# Altium schematic symbol library Connectors.SchLib: 183 symbols
Pins are listed as number, name and electrical type; pins without a type are passive.

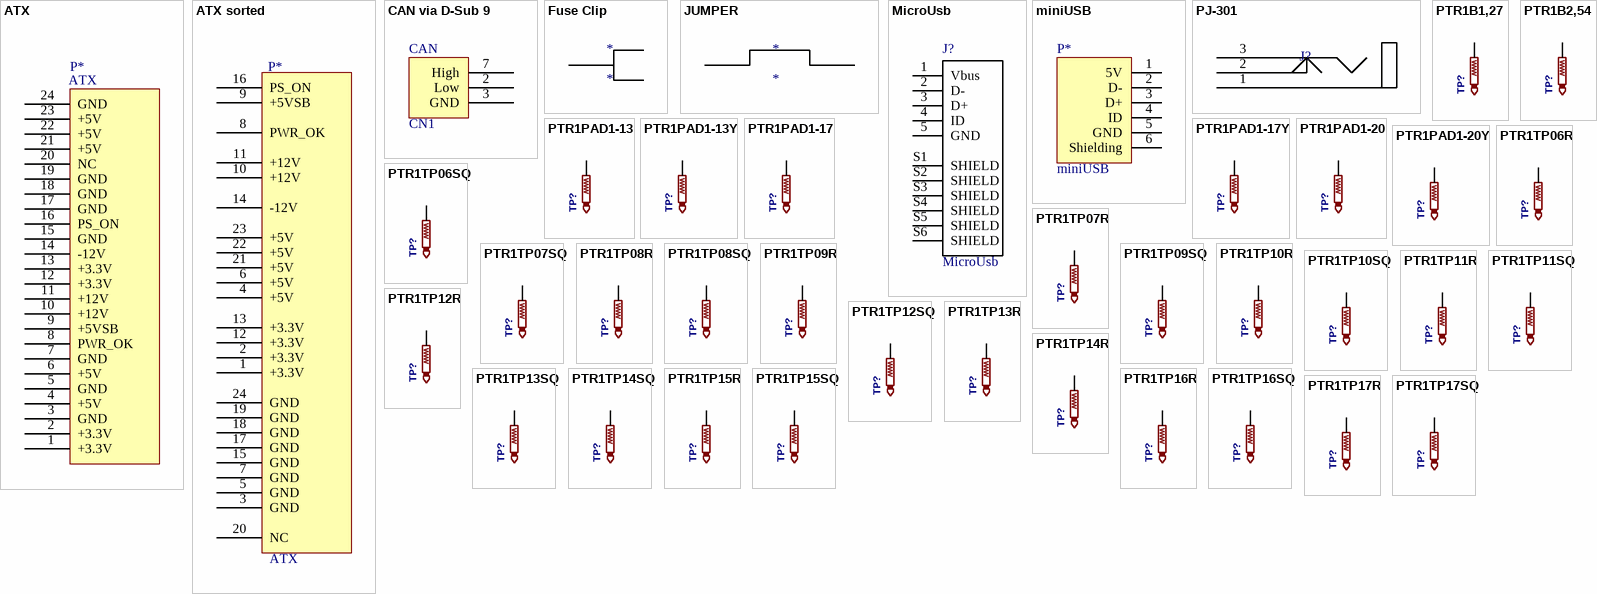
[diagram p0: symbols ATX to PTR1TP17SQ]

## ATX
designator P*
pins: 1 +3.3V, 2 +3.3V, 3 GND, 4 +5V, 5 GND, 6 +5V, 7 GND, 8 PWR_OK, 9 +5VSB, 10 +12V, 11 +12V, 12 +3.3V, 13 +3.3V, 14 -12V, 15 GND, 16 PS_ON, 17 GND, 18 GND, 19 GND, 20 NC, 21 +5V, 22 +5V, 23 +5V, 24 GND

## ATX sorted
designator P*, comment ATX
pins: 1 +3.3V, 2 +3.3V, 3 GND, 4 +5V, 5 GND, 6 +5V, 7 GND, 8 PWR_OK, 9 +5VSB, 10 +12V, 11 +12V, 12 +3.3V, 13 +3.3V, 14 -12V, 15 GND, 16 PS_ON, 17 GND, 18 GND, 19 GND, 20 NC, 21 +5V, 22 +5V, 23 +5V, 24 GND

## CAN via D-Sub 9
designator CN1, comment CAN
footprint D-SUB 9
pins: 2 Low, 3 GND, 7 High

## Fuse Clip
designator *
footprint FUSE_BK-6003
pins: 1 PIN

## JUMPER
designator *
footprint Jumper
pins: 1, 2

## MicroUsb
designator J?
10103594-0001LF / Conn Micro USB Type B RCP 5 POS 0.65mm Solder RA SMD 5 Terminal 1 Port T/R; MF: Amphenol ICC; Price: None; MP: 10103594-0001LF; Availability: Unavailable; SnapEDA_Link: https://www.snapeda.com/parts/10103594-0001LF/Amphenol%20ICC/view-part/?ref=snap; Package: None; Value: *
footprint FCI_10103594-0001LF_10103594-0001LF(Primary)
pins: 1 Vbus, 2 D-, 3 D+, 4 ID, 5 GND, S1 SHIELD, S2 SHIELD, S3 SHIELD, S4 SHIELD, S5 SHIELD, S6 SHIELD

## miniUSB
designator miniUSB, comment P*
footprint miniUSB
pins: 1 5V, 2 D-, 3 D+, 4 ID, 5 GND, 6 Shielding

## PJ-301
designator J?  (value not drawn)
https://www.snapeda.com/parts/PJ-301BM/Tayda%20Electronics/datasheet/ / https://pt.aliexpress.com/item/32841677168.html?spm=a2g03.12057483.0.0.6dda4aeaXiyjRe / https://lh3.googleusercontent.com/proxy/ZbPfZslDxdj8iWSgzh0kYZVEID9Zfc6SS9ZRHYvUB6heg4eTAyEEOQEiXlT2FamGh3ujXXQ57fTjbGyEKtdVl3hemL66LOj7ZA
footprint PJ-301
pins: 1 Sleeve, 2 Tip, 3 Ring

## PTR1B1,27
designator TP?, comment TEST PIN  (value not drawn)
footprint B1,27
pins: PP TP

## PTR1B2,54
designator TP?, comment TEST PIN  (value not drawn)
footprint B2,54
pins: PP TP

## PTR1PAD1-13
designator TP?, comment TEST PIN  (value not drawn)
footprint P1-13
pins: 1 TP

## PTR1PAD1-13Y
designator TP?, comment TEST PIN  (value not drawn)
footprint P1-13Y
pins: 1 TP

## PTR1PAD1-17
designator TP?, comment TEST PIN  (value not drawn)
footprint P1-17
pins: 1 TP

## PTR1PAD1-17Y
designator TP?, comment TEST PIN  (value not drawn)
footprint P1-17Y
pins: 1 TP

## PTR1PAD1-20
designator TP?, comment TEST PIN  (value not drawn)
footprint P1-20
pins: 1 TP

## PTR1PAD1-20Y
designator TP?, comment TEST PIN  (value not drawn)
footprint P1-20Y
pins: 1 TP

## PTR1TP06R
designator TP?, comment TEST PIN  (value not drawn)
footprint TP06R
pins: TP

## PTR1TP06SQ
designator TP?, comment TEST PIN  (value not drawn)
footprint TP06SQ
pins: TP

## PTR1TP07R
designator TP?, comment TEST PIN  (value not drawn)
footprint TP07R
pins: TP

## PTR1TP07SQ
designator TP?, comment TEST PIN  (value not drawn)
footprint TP07SQ
pins: TP

## PTR1TP08R
designator TP?, comment TEST PIN  (value not drawn)
footprint TP08R
pins: TP

## PTR1TP08SQ
designator TP?, comment TEST PIN  (value not drawn)
footprint TP08SQ
pins: TP

## PTR1TP09R
designator TP?, comment TEST PIN  (value not drawn)
footprint TP09R
pins: TP

## PTR1TP09SQ
designator TP?, comment TEST PIN  (value not drawn)
footprint TP09SQ
pins: TP

## PTR1TP10R
designator TP?, comment TEST PIN  (value not drawn)
footprint TP10R
pins: TP

## PTR1TP10SQ
designator TP?, comment TEST PIN  (value not drawn)
footprint TP10SQ
pins: TP

## PTR1TP11R
designator TP?, comment TEST PIN  (value not drawn)
footprint TP11R
pins: TP

## PTR1TP11SQ
designator TP?, comment TEST PIN  (value not drawn)
footprint TP11SQ
pins: TP

## PTR1TP12R
designator TP?, comment TEST PIN  (value not drawn)
footprint TP12R
pins: TP

## PTR1TP12SQ
designator TP?, comment TEST PIN  (value not drawn)
footprint TP12SQ
pins: TP

## PTR1TP13R
designator TP?, comment TEST PIN  (value not drawn)
footprint TP13R
pins: TP

## PTR1TP13SQ
designator TP?, comment TEST PIN  (value not drawn)
footprint TP13SQ
pins: TP

## PTR1TP14R
designator TP?, comment TEST PIN  (value not drawn)
footprint TP14R
pins: TP

## PTR1TP14SQ
designator TP?, comment TEST PIN  (value not drawn)
footprint TP14SQ
pins: TP

## PTR1TP15R
designator TP?, comment TEST PIN  (value not drawn)
footprint TP15R
pins: TP

## PTR1TP15SQ
designator TP?, comment TEST PIN  (value not drawn)
footprint TP15SQ
pins: TP

## PTR1TP16R
designator TP?, comment TEST PIN  (value not drawn)
footprint TP16R
pins: TP

## PTR1TP16SQ
designator TP?, comment TEST PIN  (value not drawn)
footprint TP16SQ
pins: TP

## PTR1TP17R
designator TP?, comment TEST PIN  (value not drawn)
footprint TP17R
pins: TP

## PTR1TP17SQ
designator TP?, comment TEST PIN  (value not drawn)
footprint TP17SQ
pins: TP

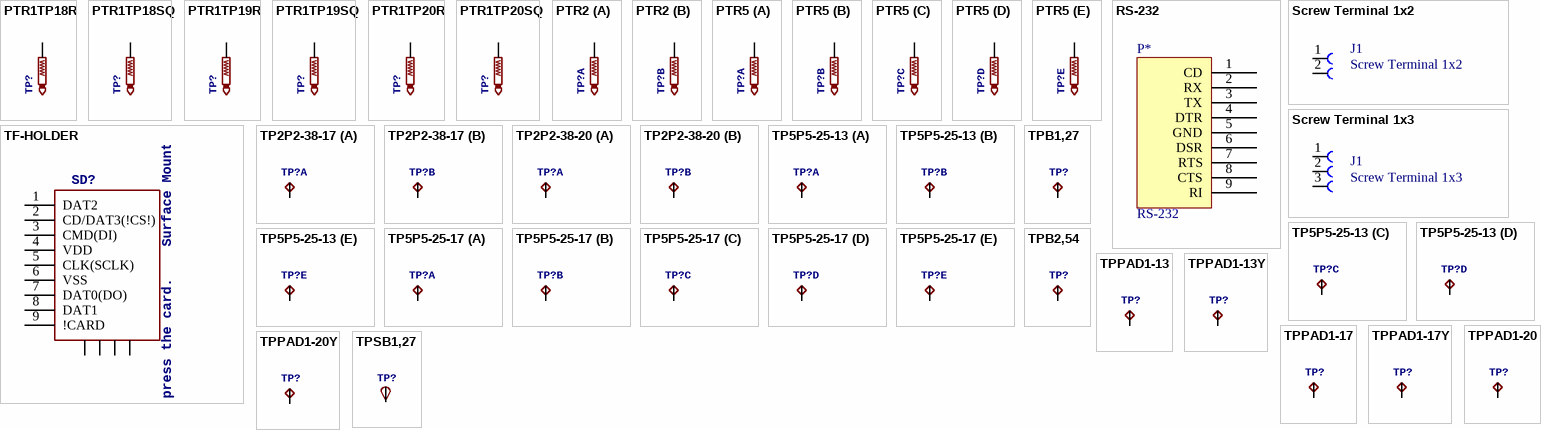
[diagram p1: symbols PTR1TP18R to TPSB1,27]

## PTR1TP18R
designator TP?, comment TEST PIN  (value not drawn)
footprint TP18R
pins: TP

## PTR1TP18SQ
designator TP?, comment TEST PIN  (value not drawn)
footprint TP18SQ
pins: TP

## PTR1TP19R
designator TP?, comment TEST PIN  (value not drawn)
footprint TP19R
pins: TP

## PTR1TP19SQ
designator TP?, comment TEST PIN  (value not drawn)
footprint TP19SQ
pins: TP

## PTR1TP20R
designator TP?, comment TEST PIN  (value not drawn)
footprint TP20R
pins: TP

## PTR1TP20SQ
designator TP?, comment TEST PIN  (value not drawn)
footprint TP20SQ
pins: TP

## PTR2
designator TP?, comment TEST PIN  (value not drawn)
footprint P2-38-17
part A pins: 1 TP
part B pins: 2 TP

## PTR5
designator TP?, comment TEST PIN  (value not drawn)
footprint P5-25-17
part A pins: 1 TP
part B pins: 2 TP
part C pins: 3 TP
part D pins: 4 TP
part E pins: 5 TP

## RS-232
designator P*
pins: 1 CD, 2 RX, 3 TX, 4 DTR, 5 GND, 6 DSR, 7 RTS, 8 CTS, 9 RI

## Screw Terminal 1x2
designator J1
102 Series 5mm Pitch Straight, PCB Terminal Block, Through Hole, 2 Way; MF: Wurth Electronics; MP: 691102710002; SnapEDA_Link: https://www.snapeda.com/parts/691102710002/Wurth%20Electronics%20Inc/view-part/?ref=snap; Price: 0.68 USD; Package: None; Availability: Warning; Value: *
footprint 691102710002
pins: 1, 2

## Screw Terminal 1x3
designator J1
T/BLOCK, 5MM, PCB, 3WAY; Connector Type: Terminal Block, PCB; Series: 212; Connector Mounting: PCB; Pitch Spacing: 5m...; MF: Wurth; MP: 691212710003; SnapEDA_Link: https://www.snapeda.com/parts/691212710003/Wurth%20Electronics%20Inc/view-part/?ref=snap; Price: None; Package: None; Availability: Unavailable; Value: *
footprint 691212710003
pins: 1, 2, 3

## TF-HOLDER
designator SD?, comment TF / Micro SD socket is PUSH-PUSH type, the card can be pushed into and auto locked and pushed out by simply press the card.    Surface Mounting type.
footprint TF-PULL
pins: 1 DAT2, 2 CD/DAT3(!CS!), 3 CMD(DI), 4 VDD (power), 5 CLK(SCLK), 6 VSS (power), 7 DAT0(DO), 8 DAT1, 9 !CARD, S1, S2, S3, S4

## TP2P2-38-17
designator TP?, comment Test pad  (value not drawn)
footprint P2-38-17
part A pins: 1 TP
part B pins: 2 TP

## TP2P2-38-20
designator TP?, comment Test pad  (value not drawn)
footprint P2-38-20
part A pins: 1 TP
part B pins: 2 TP

## TP5P5-25-13
designator TP?, comment Test pad  (value not drawn)
footprint P5-25-13
part A pins: 1 TP
part B pins: 2 TP
part C pins: 3 TP
part D pins: 4 TP
part E pins: 5 TP

## TP5P5-25-17
designator TP?, comment Test pad  (value not drawn)
footprint P5-25-17
part A pins: 1 TP
part B pins: 2 TP
part C pins: 3 TP
part D pins: 4 TP
part E pins: 5 TP

## TPB1,27
designator TP?, comment Test pad  (value not drawn)
footprint B1,27
pins: PP TP

## TPB2,54
designator TP?, comment Test pad  (value not drawn)
footprint B2,54
pins: PP TP

## TPPAD1-13
designator TP?, comment Test pad  (value not drawn)
footprint P1-13
pins: 1 TP

## TPPAD1-13Y
designator TP?, comment Test pad  (value not drawn)
footprint P1-13Y
pins: 1 TP

## TPPAD1-17
designator TP?, comment Test pad  (value not drawn)
footprint P1-17
pins: 1 TP

## TPPAD1-17Y
designator TP?, comment Test pad  (value not drawn)
footprint P1-17Y
pins: 1 TP

## TPPAD1-20
designator TP?, comment Test pad  (value not drawn)
footprint P1-20
pins: 1 TP

## TPPAD1-20Y
designator TP?, comment Test pad  (value not drawn)
footprint P1-20Y
pins: 1 TP

## TPSB1,27
designator TP?, comment TEST PIN  (value not drawn)
footprint B1,27
pins: PP

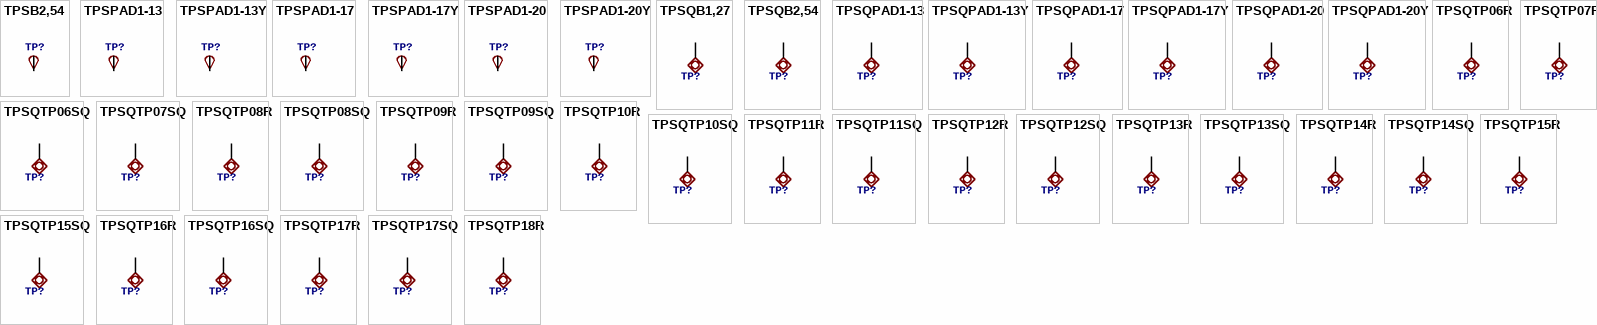
[diagram p2: symbols TPSB2,54 to TPSQTP18R]

## TPSB2,54
designator TP?, comment TEST PIN  (value not drawn)
footprint B2,54
pins: PP

## TPSPAD1-13
designator TP?, comment TEST PIN  (value not drawn)
footprint P1-13
pins: 1 PP

## TPSPAD1-13Y
designator TP?, comment TEST PIN  (value not drawn)
footprint P1-13Y
pins: 1 PP

## TPSPAD1-17
designator TP?, comment TEST PIN  (value not drawn)
footprint P1-17
pins: 1 PP

## TPSPAD1-17Y
designator TP?, comment TEST PIN  (value not drawn)
footprint P1-17Y
pins: 1 PP

## TPSPAD1-20
designator TP?, comment TEST PIN  (value not drawn)
footprint P1-20
pins: 1 PP

## TPSPAD1-20Y
designator TP?, comment TEST PIN  (value not drawn)
footprint P1-20Y
pins: 1 PP

## TPSQB1,27
designator TP?, comment Test pad  (value not drawn)
footprint B1,27
pins: PP TP

## TPSQB2,54
designator TP?, comment Test pad  (value not drawn)
footprint B2,54
pins: PP TP

## TPSQPAD1-13
designator TP?, comment Test pad  (value not drawn)
footprint P1-13
pins: 1 TP

## TPSQPAD1-13Y
designator TP?, comment Test pad  (value not drawn)
footprint P1-13Y
pins: 1 TP

## TPSQPAD1-17
designator TP?, comment Test pad  (value not drawn)
footprint P1-17
pins: 1 TP

## TPSQPAD1-17Y
designator TP?, comment Test pad  (value not drawn)
footprint P1-17Y
pins: 1 TP

## TPSQPAD1-20
designator TP?, comment Test pad  (value not drawn)
footprint P1-20
pins: 1 TP

## TPSQPAD1-20Y
designator TP?, comment Test pad  (value not drawn)
footprint P1-20Y
pins: 1 TP

## TPSQTP06R
designator TP?, comment Test pad  (value not drawn)
footprint TP06R
pins: TP

## TPSQTP06SQ
designator TP?, comment Test pad  (value not drawn)
footprint TP06SQ
pins: TP

## TPSQTP07R
designator TP?, comment Test pad  (value not drawn)
footprint TP07R
pins: TP

## TPSQTP07SQ
designator TP?, comment Test pad  (value not drawn)
footprint TP07SQ
pins: TP

## TPSQTP08R
designator TP?, comment Test pad  (value not drawn)
footprint TP08R
pins: TP

## TPSQTP08SQ
designator TP?, comment Test pad  (value not drawn)
footprint TP08SQ
pins: TP

## TPSQTP09R
designator TP?, comment Test pad  (value not drawn)
footprint TP09R
pins: TP

## TPSQTP09SQ
designator TP?, comment Test pad  (value not drawn)
footprint TP09SQ
pins: TP

## TPSQTP10R
designator TP?, comment Test pad  (value not drawn)
footprint TP10R
pins: TP

## TPSQTP10SQ
designator TP?, comment Test pad  (value not drawn)
footprint TP10SQ
pins: TP

## TPSQTP11R
designator TP?, comment Test pad  (value not drawn)
footprint TP11R
pins: TP

## TPSQTP11SQ
designator TP?, comment Test pad  (value not drawn)
footprint TP11SQ
pins: TP

## TPSQTP12R
designator TP?, comment Test pad  (value not drawn)
footprint TP12R
pins: TP

## TPSQTP12SQ
designator TP?, comment Test pad  (value not drawn)
footprint TP12SQ
pins: TP

## TPSQTP13R
designator TP?, comment Test pad  (value not drawn)
footprint TP13R
pins: TP

## TPSQTP13SQ
designator TP?, comment Test pad  (value not drawn)
footprint TP13SQ
pins: TP

## TPSQTP14R
designator TP?, comment Test pad  (value not drawn)
footprint TP14R
pins: TP

## TPSQTP14SQ
designator TP?, comment Test pad  (value not drawn)
footprint TP14SQ
pins: TP

## TPSQTP15R
designator TP?, comment Test pad  (value not drawn)
footprint TP15R
pins: TP

## TPSQTP15SQ
designator TP?, comment Test pad  (value not drawn)
footprint TP15SQ
pins: TP

## TPSQTP16R
designator TP?, comment Test pad  (value not drawn)
footprint TP16R
pins: TP

## TPSQTP16SQ
designator TP?, comment Test pad  (value not drawn)
footprint TP16SQ
pins: TP

## TPSQTP17R
designator TP?, comment Test pad  (value not drawn)
footprint TP17R
pins: TP

## TPSQTP17SQ
designator TP?, comment Test pad  (value not drawn)
footprint TP17SQ
pins: TP

## TPSQTP18R
designator TP?, comment Test pad  (value not drawn)
footprint TP18R
pins: TP

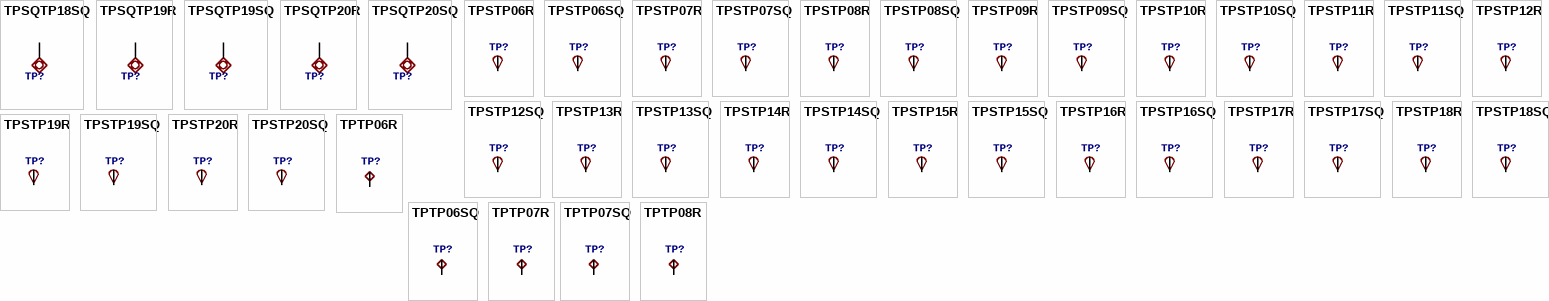
[diagram p3: symbols TPSQTP18SQ to TPTP08R]

## TPSQTP18SQ
designator TP?, comment Test pad  (value not drawn)
footprint TP18SQ
pins: TP

## TPSQTP19R
designator TP?, comment Test pad  (value not drawn)
footprint TP19R
pins: TP

## TPSQTP19SQ
designator TP?, comment Test pad  (value not drawn)
footprint TP19SQ
pins: TP

## TPSQTP20R
designator TP?, comment Test pad  (value not drawn)
footprint TP20R
pins: TP

## TPSQTP20SQ
designator TP?, comment Test pad  (value not drawn)
footprint TP20SQ
pins: TP

## TPSTP06R
designator TP?, comment TEST PIN  (value not drawn)
footprint TP06R
pins: TP PP

## TPSTP06SQ
designator TP?, comment TEST PIN  (value not drawn)
footprint TP06SQ
pins: TP PP

## TPSTP07R
designator TP?, comment TEST PIN  (value not drawn)
footprint TP07R
pins: TP PP

## TPSTP07SQ
designator TP?, comment TEST PIN  (value not drawn)
footprint TP07SQ
pins: TP PP

## TPSTP08R
designator TP?, comment TEST PIN  (value not drawn)
footprint TP08R
pins: TP PP

## TPSTP08SQ
designator TP?, comment TEST PIN  (value not drawn)
footprint TP08SQ
pins: TP PP

## TPSTP09R
designator TP?, comment TEST PIN  (value not drawn)
footprint TP09R
pins: TP PP

## TPSTP09SQ
designator TP?, comment TEST PIN  (value not drawn)
footprint TP09SQ
pins: TP PP

## TPSTP10R
designator TP?, comment TEST PIN  (value not drawn)
footprint TP10R
pins: TP PP

## TPSTP10SQ
designator TP?, comment TEST PIN  (value not drawn)
footprint TP10SQ
pins: TP PP

## TPSTP11R
designator TP?, comment TEST PIN  (value not drawn)
footprint TP11R
pins: TP PP

## TPSTP11SQ
designator TP?, comment TEST PIN  (value not drawn)
footprint TP11SQ
pins: TP PP

## TPSTP12R
designator TP?, comment TEST PIN  (value not drawn)
footprint TP12R
pins: TP PP

## TPSTP12SQ
designator TP?, comment TEST PIN  (value not drawn)
footprint TP12SQ
pins: TP PP

## TPSTP13R
designator TP?, comment TEST PIN  (value not drawn)
footprint TP13R
pins: TP PP

## TPSTP13SQ
designator TP?, comment TEST PIN  (value not drawn)
footprint TP13SQ
pins: TP PP

## TPSTP14R
designator TP?, comment TEST PIN  (value not drawn)
footprint TP14R
pins: TP PP

## TPSTP14SQ
designator TP?, comment TEST PIN  (value not drawn)
footprint TP14SQ
pins: TP PP

## TPSTP15R
designator TP?, comment TEST PIN  (value not drawn)
footprint TP15R
pins: TP PP

## TPSTP15SQ
designator TP?, comment TEST PIN  (value not drawn)
footprint TP15SQ
pins: TP PP

## TPSTP16R
designator TP?, comment TEST PIN  (value not drawn)
footprint TP16R
pins: TP PP

## TPSTP16SQ
designator TP?, comment TEST PIN  (value not drawn)
footprint TP16SQ
pins: TP PP

## TPSTP17R
designator TP?, comment TEST PIN  (value not drawn)
footprint TP17R
pins: TP PP

## TPSTP17SQ
designator TP?, comment TEST PIN  (value not drawn)
footprint TP17SQ
pins: TP PP

## TPSTP18R
designator TP?, comment TEST PIN  (value not drawn)
footprint TP18R
pins: TP PP

## TPSTP18SQ
designator TP?, comment TEST PIN  (value not drawn)
footprint TP18SQ
pins: TP PP

## TPSTP19R
designator TP?, comment TEST PIN  (value not drawn)
footprint TP19R
pins: TP PP

## TPSTP19SQ
designator TP?, comment TEST PIN  (value not drawn)
footprint TP19SQ
pins: TP PP

## TPSTP20R
designator TP?, comment TEST PIN  (value not drawn)
footprint TP20R
pins: TP PP

## TPSTP20SQ
designator TP?, comment TEST PIN  (value not drawn)
footprint TP20SQ
pins: TP PP

## TPTP06R
designator TP?, comment Test pad  (value not drawn)
footprint TP06R
pins: TP

## TPTP06SQ
designator TP?, comment Test pad  (value not drawn)
footprint TP06SQ
pins: TP

## TPTP07R
designator TP?, comment Test pad  (value not drawn)
footprint TP07R
pins: TP

## TPTP07SQ
designator TP?, comment Test pad  (value not drawn)
footprint TP07SQ
pins: TP

## TPTP08R
designator TP?, comment Test pad  (value not drawn)
footprint TP08R
pins: TP

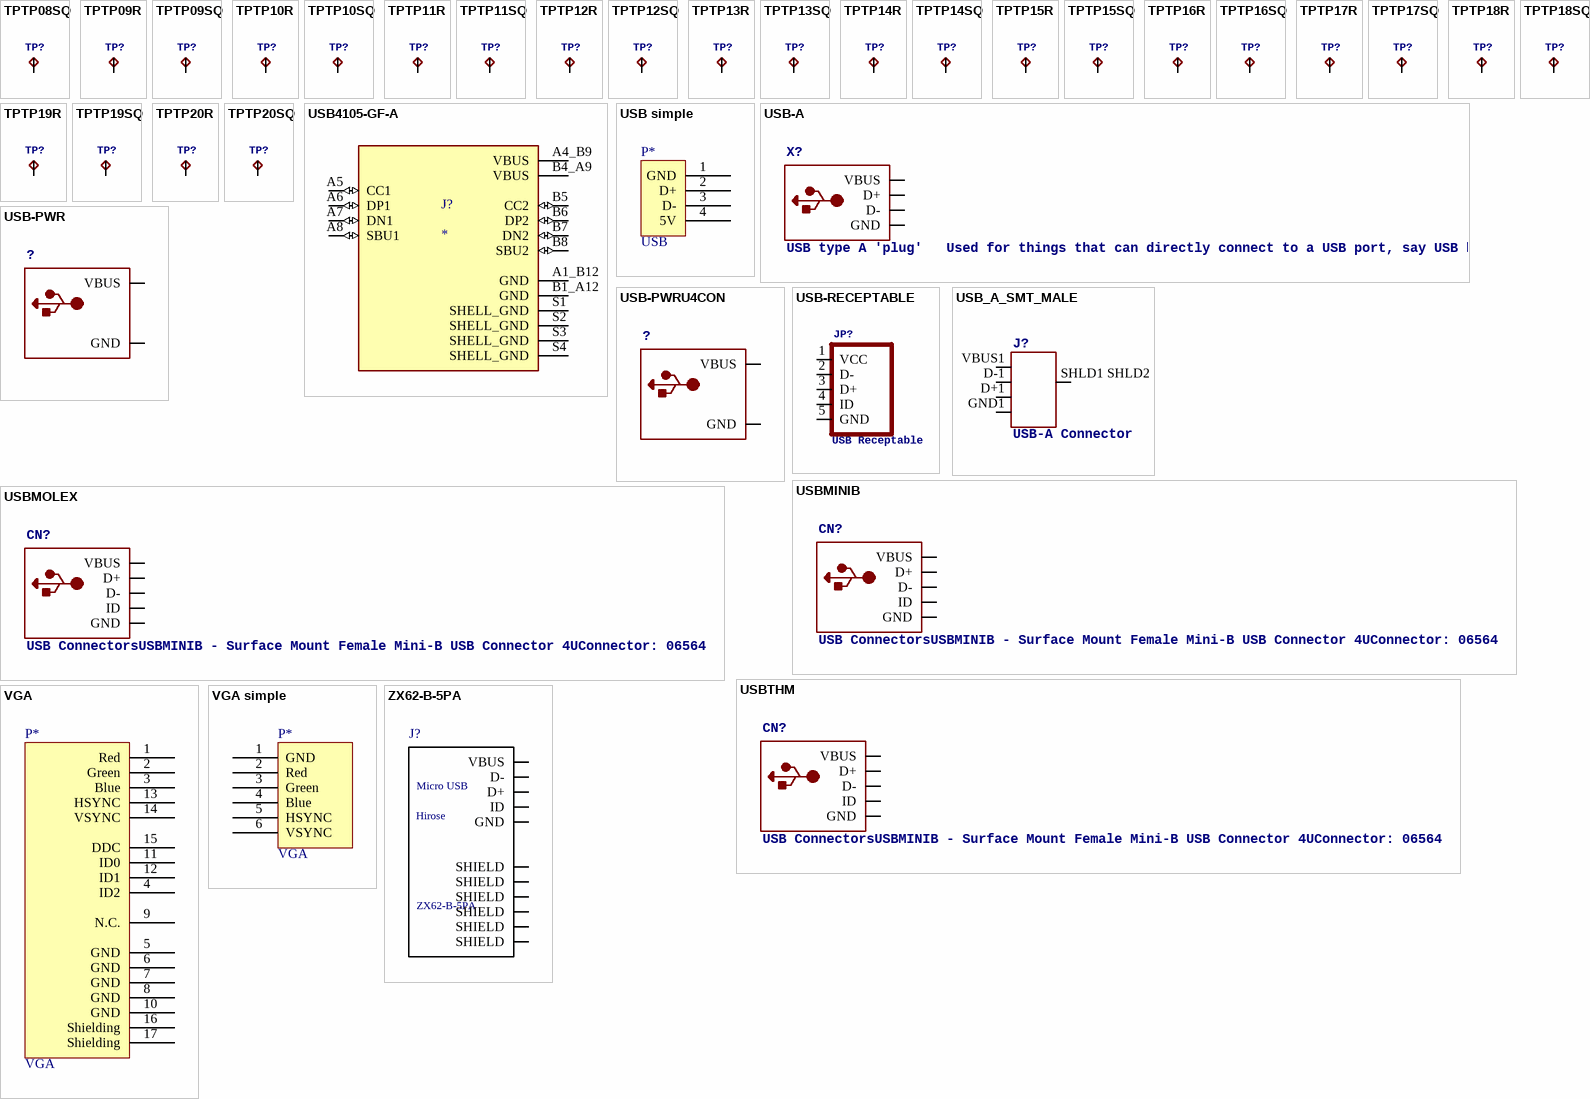
[diagram p4: symbols TPTP08SQ to ZX62-B-5PA]

## TPTP08SQ
designator TP?, comment Test pad  (value not drawn)
footprint TP08SQ
pins: TP

## TPTP09R
designator TP?, comment Test pad  (value not drawn)
footprint TP09R
pins: TP

## TPTP09SQ
designator TP?, comment Test pad  (value not drawn)
footprint TP09SQ
pins: TP

## TPTP10R
designator TP?, comment Test pad  (value not drawn)
footprint TP10R
pins: TP

## TPTP10SQ
designator TP?, comment Test pad  (value not drawn)
footprint TP10SQ
pins: TP

## TPTP11R
designator TP?, comment Test pad  (value not drawn)
footprint TP11R
pins: TP

## TPTP11SQ
designator TP?, comment Test pad  (value not drawn)
footprint TP11SQ
pins: TP

## TPTP12R
designator TP?, comment Test pad  (value not drawn)
footprint TP12R
pins: TP

## TPTP12SQ
designator TP?, comment Test pad  (value not drawn)
footprint TP12SQ
pins: TP

## TPTP13R
designator TP?, comment Test pad  (value not drawn)
footprint TP13R
pins: TP

## TPTP13SQ
designator TP?, comment Test pad  (value not drawn)
footprint TP13SQ
pins: TP

## TPTP14R
designator TP?, comment Test pad  (value not drawn)
footprint TP14R
pins: TP

## TPTP14SQ
designator TP?, comment Test pad  (value not drawn)
footprint TP14SQ
pins: TP

## TPTP15R
designator TP?, comment Test pad  (value not drawn)
footprint TP15R
pins: TP

## TPTP15SQ
designator TP?, comment Test pad  (value not drawn)
footprint TP15SQ
pins: TP

## TPTP16R
designator TP?, comment Test pad  (value not drawn)
footprint TP16R
pins: TP

## TPTP16SQ
designator TP?, comment Test pad  (value not drawn)
footprint TP16SQ
pins: TP

## TPTP17R
designator TP?, comment Test pad  (value not drawn)
footprint TP17R
pins: TP

## TPTP17SQ
designator TP?, comment Test pad  (value not drawn)
footprint TP17SQ
pins: TP

## TPTP18R
designator TP?, comment Test pad  (value not drawn)
footprint TP18R
pins: TP

## TPTP18SQ
designator TP?, comment Test pad  (value not drawn)
footprint TP18SQ
pins: TP

## TPTP19R
designator TP?, comment Test pad  (value not drawn)
footprint TP19R
pins: TP

## TPTP19SQ
designator TP?, comment Test pad  (value not drawn)
footprint TP19SQ
pins: TP

## TPTP20R
designator TP?, comment Test pad  (value not drawn)
footprint TP20R
pins: TP

## TPTP20SQ
designator TP?, comment Test pad  (value not drawn)
footprint TP20SQ
pins: TP

## USB4105-GF-A
designator J?
USB-C (USB TYPE-C) USB 2.0 Receptacle Connector 24 (16+8 Dummy) Position Surface Mount, Right Angle; Through Hole; MP: USB4105-GF-A; MF: GCT; Price: None; Value: *; Package: None; Purchase-URL: https://pricing.snapeda.com/search/part/USB4105-GF-A/?ref=eda; SnapEDA_Link: https://www.snapeda.com/parts/USB4105-GF-A/Global%20Connector%20Technology/view-part/4423780/?ref=snap; Check_prices: https://www.snapeda.com/parts/USB4105-GF-A/Global%20Connector%20Technology/view-part/4423780/?ref=eda; Availability: Warning
footprint GCT_USB4105-GF-A
pins: A1_B12 GND (power), A4_B9 VBUS (power), A5 CC1 (io), A6 DP1 (io), A7 DN1 (io), A8 SBU1 (io), B1_A12 GND (power), B4_A9 VBUS (power), B5 CC2 (io), B6 DP2 (io), B7 DN2 (io), B8 SBU2 (io), S1 SHELL_GND (power), S2 SHELL_GND (power), S3 SHELL_GND (power), S4 SHELL_GND (power)

## USB simple
designator P*, comment USB
footprint USB plug
pins: 1 GND, 2 D+, 3 D-, 4 5V

## USB-A
designator X?, comment USB type A 'plug'   Used for things that can directly connect to a USB port, say USB key
footprint MOLEX_480371000
pins: 1 VBUS (power), 2 D-, 3 D+, 4 GND (power)

## USB-PWR
designator ?
footprint USB-MINIB-THM-MOLEX-PWRONLY
pins: GND (power), VBUS (power)

## USB-PWRU4CON
designator ?
footprint USB-MINIB-THM-PWRONLY
pins: GND (power), VBUS (power)

## USB-RECEPTABLE
designator JP?, comment USB Receptable
footprint FCI-10103594-0001LF
pins: 1 VCC, 2 D-, 3 D+, 4 ID, 5 GND

## USB_A_SMT_MALE
designator J?, comment USB-A Connector    Male and female variants, as well as PTH and SMT variants   SparkFun Products:  SparkFun XBee Explorer Dongle PTH Male  SparkFun MicroView-USB Programmer SMT Male  SparkFun USB Type A Female Breakout SMT Female
PROD_ID: CONN-11499
footprint USB-A-SMT-MALE
pins: D+1 D+, D-1 D-, GND1 GND (power), SHLD1 SHLD2 SHIELD, VBUS1 VBUS (power)

## USBMINIB
designator CN?, comment USB ConnectorsUSBMINIB - Surface Mount Female Mini-B USB Connector 4UConnector: 06564   By microbuilder.euThru-hole RA Female Mini-B USB Connector 4UConnector: 18732   By ladyada.net
footprint USB-MINIB
pins: D+, D-, GND (power), ID, VBUS (power)

## USBMOLEX
designator CN?, comment USB ConnectorsUSBMINIB - Surface Mount Female Mini-B USB Connector 4UConnector: 06564   By microbuilder.euThru-hole RA Female Mini-B USB Connector 4UConnector: 18732   By ladyada.net
footprint USB-MINIB-THM-MOLEX
pins: D+, D-, GND (power), ID, VBUS (power)

## USBTHM
designator CN?, comment USB ConnectorsUSBMINIB - Surface Mount Female Mini-B USB Connector 4UConnector: 06564   By microbuilder.euThru-hole RA Female Mini-B USB Connector 4UConnector: 18732   By ladyada.net
footprint USB-MINIB-THM
pins: D+, D-, GND (power), ID, VBUS (power)

## VGA
designator P*
pins: 1 Red, 2 Green, 3 Blue, 4 ID2, 5 GND, 6 GND, 7 GND, 8 GND, 9 N.C., 10 GND, 11 ID0, 12 ID1, 13 HSYNC, 14 VSYNC, 15 DDC, 16 Shielding, 17 Shielding

## VGA simple
designator P*, comment VGA
pins: 1 GND, 2 Red, 3 Green, 4 Blue, 5 HSYNC, 6 VSYNC

## ZX62-B-5PA
designator J?  (value not drawn)
5 Contact USB 2.0 Type B male receptacle; MP: ZX62-B-5PA; MF: Hirose; Price: None; Package: None; Availability: Unavailable; Value: *
footprint ZX62-B-5PA(11)_ZX62-B-5PA(Primary)
pins: 1 VBUS (power), 2 D- (io), 3 D+ (io), 4 ID (io), 5 GND (power), SH1 SHIELD (power), SH2 SHIELD (power), SH3 SHIELD (power), SH4 SHIELD (power), SH5 SHIELD (power), SH6 SHIELD (power)
text: Micro USB